# Altium footprint library Trans_Vishay_Siliconix_SI2301BDS-T1-E3_eec_IPC_A.PcbLib: 1 footprints
Each footprint in its own frame and in the unit in brackets; x right, y up, seen from the top. Pads: shape width x height; smd on the part's side, far side on the other; paste and mask are expansions set on the pad; w line width, h text height; cw(c..) or ccw(c..) is an arc to the next point about the centre after c.
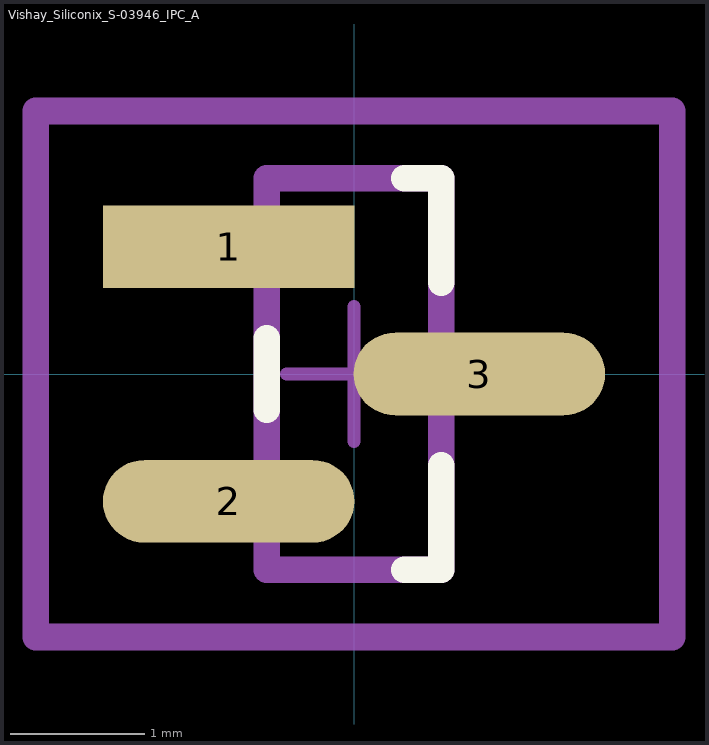
[diagram p0: the footprint, top view; thin cyan lines are the x and y axes]

## Vishay_Siliconix_S-03946_IPC_A [mm]
pads (3):
  rect 1.874x0.616 smd paste+0 mask+0: 1(-0.935,0.95)
  rrect100% 1.874x0.616 smd paste+0 mask+0: 2(-0.935,-0.95) 3(0.935,0)
Top Overlay:
  lines w0.2: -0.65,-0.267 -0.65,0.267 ; 0.377,-1.46 0.65,-1.46 0.65,-0.683 ; 0.377,1.46 0.65,1.46 0.65,0.683
Mechanical 10:
  lines w0.2: -2.372,-1.96 2.372,-1.96 2.372,1.96 -2.372,1.96 -2.372,-1.96
  text ".Designator" at 0,0 h1
Mechanical 12:
  lines w0.2: -0.65,-1.46 0.65,-1.46 0.65,1.46 -0.65,1.46 -0.65,-1.46
Mechanical 15:
  lines w0.1: -0.5,0 0.5,0 ; 0,-0.5 0,0.5
  lines w0.2: -2.372,-1.96 2.372,-1.96 2.372,1.96 -2.372,1.96 -2.372,-1.96
3D body "Trans_Vishay_Siliconix_SI2301BDS-T1-E3_eec.STEP": height 0.25, standoff 0, extent -2.372,-1.96 2.372,1.96